# EAGLE library part PINHEAD_2X04 (library pinhead)
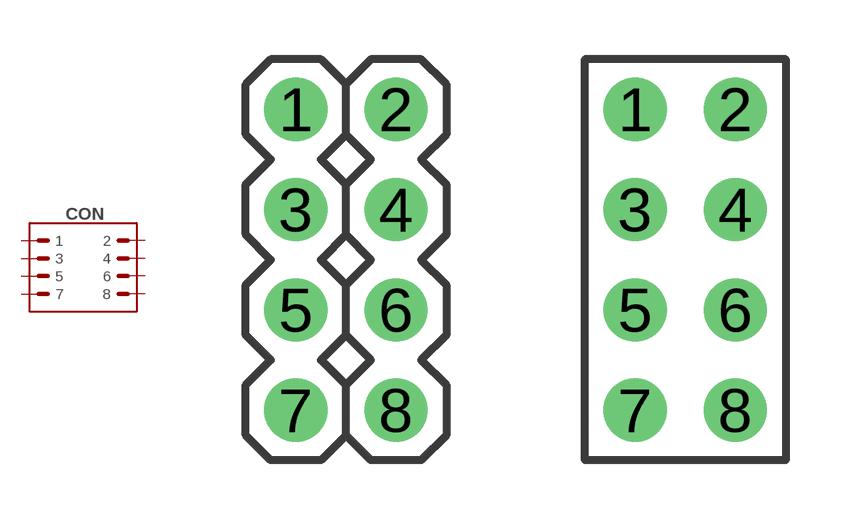
[diagram p10: symbol with the pads of 2X04-PTH-2.54; footprints 2X04-PTH-2.54, PBD-8]

Designator prefix CON

## PINHEAD_2X04-PLS  [2X04-PTH-2.54]
1  1  pas
2  2  pas
3  3  pas
4  4  pas
5  5  pas
6  6  pas
7  7  pas
8  8  pas

## PINHEAD_2X04-PBD  [PBD-8]
Pads as for 2X04-PTH-2.54

## Footprint 2X04-PTH-2.54 (pad centres in mm)
drill 0.9 pad 1.6: 1 -1.27,3.81; 2 1.27,3.81; 3 -1.27,1.27; 4 1.27,1.27; 5 -1.27,-1.27; 6 1.27,-1.27; 7 -1.27,-3.81; 8 1.27,-3.81

## Footprint PBD-8 (pad centres in mm)
drill 0.9 pad 1.6: 1 -1.27,3.81; 2 1.27,3.81; 3 -1.27,1.27; 4 1.27,1.27; 5 -1.27,-1.27; 6 1.27,-1.27; 7 -1.27,-3.81; 8 1.27,-3.81